# EAGLE library part ARDUINO_DEV (library arduino)
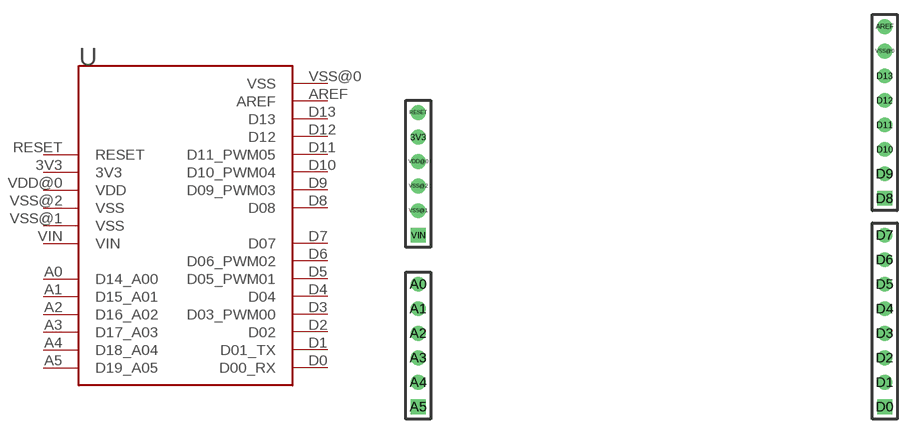
[diagram p0: symbol with the pads of ARDUINO_PAC; footprint ARDUINO_PAC]

Designator prefix -

## ARDUINO_DEV  [ARDUINO_PAC]
3V3  3V3  pwr
A0  D14_A00
A1  D15_A01
A2  D16_A02
A3  D17_A03
A4  D18_A04
A5  D19_A05
AREF  AREF  in
D0  D00_RX
D1  D01_TX
D2  D02
D3  D03_PWM00
D4  D04
D5  D05_PWM01
D6  D06_PWM02
D7  D07
D8  D08
D9  D09_PWM03
D10  D10_PWM04
D11  D11_PWM05
D12  D12
D13  D13
RESET  RESET  in
VDD@0  VDD  pwr
VIN  VIN  in
VSS@0  VSS  sup
VSS@1  VSS  sup
VSS@2  VSS  sup

## Footprint ARDUINO_PAC (pad centres in mm)
drill 0.991 pad 1.524 round: 3V3 -48.26,-15.24; A0 -48.26,-30.48; A1 -48.26,-33.02; A2 -48.26,-35.56; A3 -48.26,-38.1; A4 -48.26,-40.64; AREF 0,-3.81; D1 0,-40.64; D2 0,-38.1; D3 0,-35.56; D4 0,-33.02; D5 0,-30.48; D6 0,-27.94; D7 0,-25.4; D9 0,-19.05; D10 0,-16.51; D11 0,-13.97; D12 0,-11.43; D13 0,-8.89; RESET -48.26,-12.7; VDD@0 -48.26,-17.78; VSS@0 0,-6.35; VSS@1 -48.26,-22.86; VSS@2 -48.26,-20.32
drill 0.991 pad 1.524 square: A5 -48.26,-43.18; D0 0,-43.18; D8 0,-21.59; VIN -48.26,-25.4